# Altium schematic symbol library kbjs-parts.SchLib: 5 symbols
Pins are listed as number, name and electrical type; pins without a type are passive.

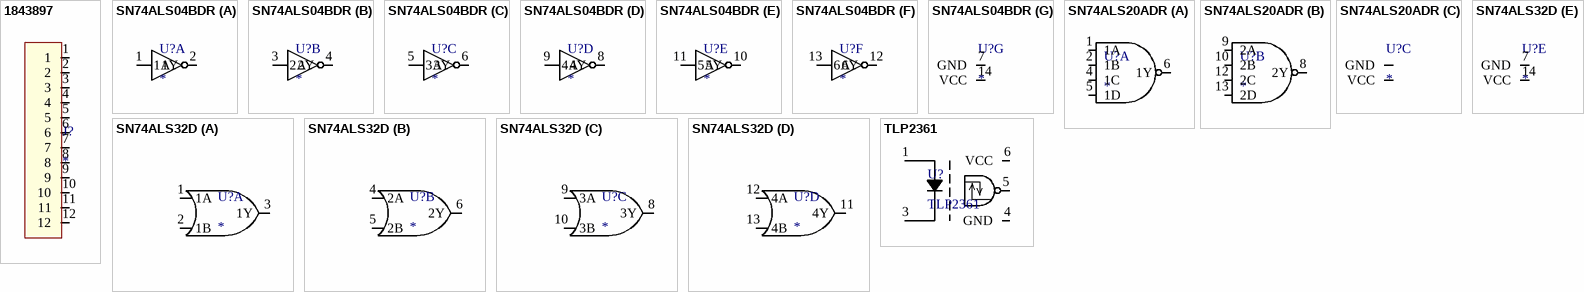
[diagram p0: symbols 1843897 to TLP2361]

## 1843897
designator J?
Feed-through header, 12POS, Combicon Series, Mates w/ 1847220
footprint KSMITH_LIB_1843897
pins: 1, 2, 3, 4, 5, 6, 7, 8, 9, 10, 11, 12

## SN74ALS04BDR
designator U?
Hex Inverter; Supplier 1: Digi-Key; Supplier Part Number 1: 296-1122-1-ND
footprint D14
part A pins: 1 1A, 2 1Y
part B pins: 3 2A, 4 2Y
part C pins: 5 3A, 6 3Y
part D pins: 8 4Y, 9 4A
part E pins: 10 5Y, 11 5A
part F pins: 12 6Y, 13 6A
part G pins: 7 GND, 14 VCC

## SN74ALS20ADR
designator U?
Dual 4-Input Positive-NAND Gates; Supplier 1: Digi-Key; Supplier Part Number 1: 296-5036-1-ND
footprint D14-M
footprint D14
part A pins: 1 1A, 2 1B, 4 1C, 5 1D, 6 1Y
part B pins: 8 2Y, 9 2A, 10 2B, 12 2C, 13 2D
part C pins: 7 GND (power), 14 VCC (power)

## SN74ALS32D
designator U?
Quadruple 2-Input Positive OR Gate; Supplier 1: Digi-Key; Supplier Part Number 1: 296-1127-5-ND
footprint D14
part A pins: 1 1A, 2 1B, 3 1Y
part B pins: 4 2A, 5 2B, 6 2Y
part C pins: 8 3Y, 9 3A, 10 3B
part D pins: 11 4Y, 12 4A, 13 4B
part E pins: 7 GND, 14 VCC

## TLP2361
designator U?
optocoupler, S06 package; Supplier 1: Digi-Key; Supplier 2: Digi-Key; Supplier Part Number 1: TLP2361(V4-TPLECT-ND; Supplier Part Number 2: TLP2361(V4E-ND
footprint 5pin SO6
pins: 1, 3, 4 GND (power), 5, 6 VCC (power)